# Altium footprint library PIC.PcbLib: 1 footprints
Each footprint in its own frame and in the unit in brackets; x right, y up, seen from the top. Pads: shape width x height; smd on the part's side, far side on the other; paste and mask are expansions set on the pad; w line width, h text height; cw(c..) or ccw(c..) is an arc to the next point about the centre after c.
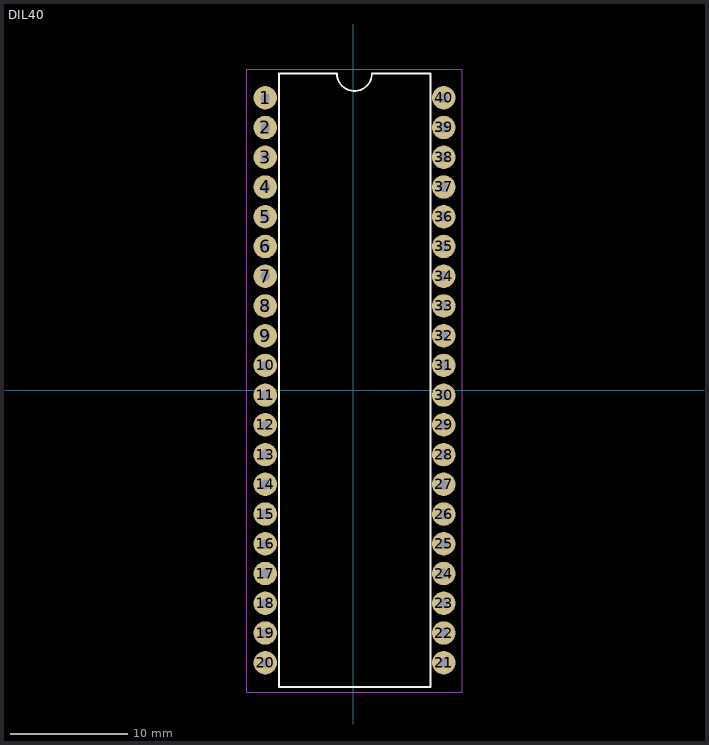
[diagram p0: the footprint, top view; thin cyan lines are the x and y axes]

## DIL40 [mm]
pads (40):
  round 2 hole 0.85: 1(-7.518,24.994) 2(-7.518,22.454) 3(-7.518,19.914) 4(-7.518,17.374) 5(-7.518,14.834) 6(-7.518,12.294) 7(-7.518,9.754) 8(-7.518,7.214) 9(-7.518,4.674) 10(-7.518,2.134) 11(-7.518,-0.406) 12(-7.518,-2.946) 13(-7.518,-5.486) 14(-7.518,-8.026) 15(-7.518,-10.566) 16(-7.518,-13.106) 17(-7.518,-15.646) 18(-7.518,-18.186) 19(-7.518,-20.726) 20(-7.518,-23.266) 21(7.722,-23.266) 22(7.722,-20.726) 23(7.722,-18.186) 24(7.722,-15.646) 25(7.722,-13.106) 26(7.722,-10.566) 27(7.722,-8.026) 28(7.722,-5.486) 29(7.722,-2.946) 30(7.722,-0.406) 31(7.722,2.134) 32(7.722,4.674) 33(7.722,7.214) 34(7.722,9.754) 35(7.722,12.294) 36(7.722,14.834) 37(7.722,17.374) 38(7.722,19.914) 39(7.722,22.454) 40(7.722,24.994)
Top Overlay:
  lines w0.152: -1.422,27.076 -6.35,27.076 -6.35,-25.349 6.604,-25.349 6.604,27.076 1.6,27.076 ; -1.398,27.076 ccw(c0.102,27.076) 1.602,27.076
Mechanical 15 (Mech15):
  lines w0.05: -9.144,-25.781 9.271,-25.781 9.271,27.432 -9.144,27.432 -9.144,-25.781
3D body "PIC - 16F877A.STEP": height 4.08, standoff -3.67, extent -8.153,-25.248 8.357,27.026